# Altium footprint library on_shore_rising_clamp.PcbLib: 2 footprints
Each footprint in its own frame and in the unit in brackets; x right, y up, seen from the top. Pads: shape width x height; smd on the part's side, far side on the other; paste and mask are expansions set on the pad; w line width, h text height; cw(c..) or ccw(c..) is an arc to the next point about the centre after c.
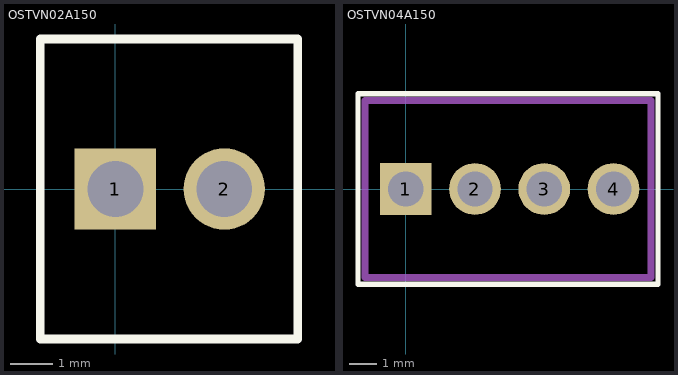
[diagram p0: the footprints below, top view; thin cyan lines are the x and y axes]

## OSTVN02A150 [mm] "2 Position Wire to Board Terminal Block Horizontal with Board 0.100\" (2.54mm) Through Hole"
height 8.5
pads (2):
  rect 1.9x1.9 hole 1.3: 1(0,0)
  round 1.9 hole 1.3: 2(2.54,0)
Top Overlay:
  lines w0.2: -1.75,-3.5 4.25,-3.5 4.25,3.5 -1.75,3.5 -1.75,-3.5

## OSTVN04A150 [mm] "4 Position Wire to Board Terminal Block Horizontal with Board 0.100\" (2.54mm) Through Hole"
height 8.5
pads (4):
  rect 1.9x1.9 hole 1.3: 1(0,0)
  round 1.9 hole 1.3: 2(2.54,0) 3(5.08,0) 4(7.62,0)
Top Overlay:
  lines w0.2: -1.75,-3.5 9.25,-3.5 9.25,3.5 -1.75,3.5 -1.75,-3.5
Top Courtyard - M15:
  lines w0.254: -1.5,-3.25 9,-3.25 9,3.25 -1.5,3.25 -1.5,-3.25
3D body "OSTVN04A150--3DModel-STEP-56544.STEP": height 8.65, standoff -3.35, extent -1.47,-3.25 9.09,3.25